# Altium footprint library 21xt_footprints.PcbLib: 29 footprints (part 1 of 2)
Each footprint in its own frame and in the unit in brackets; x right, y up, seen from the top. Pads: shape width x height; smd on the part's side, far side on the other; paste and mask are expansions set on the pad; w line width, h text height; cw(c..) or ccw(c..) is an arc to the next point about the centre after c.
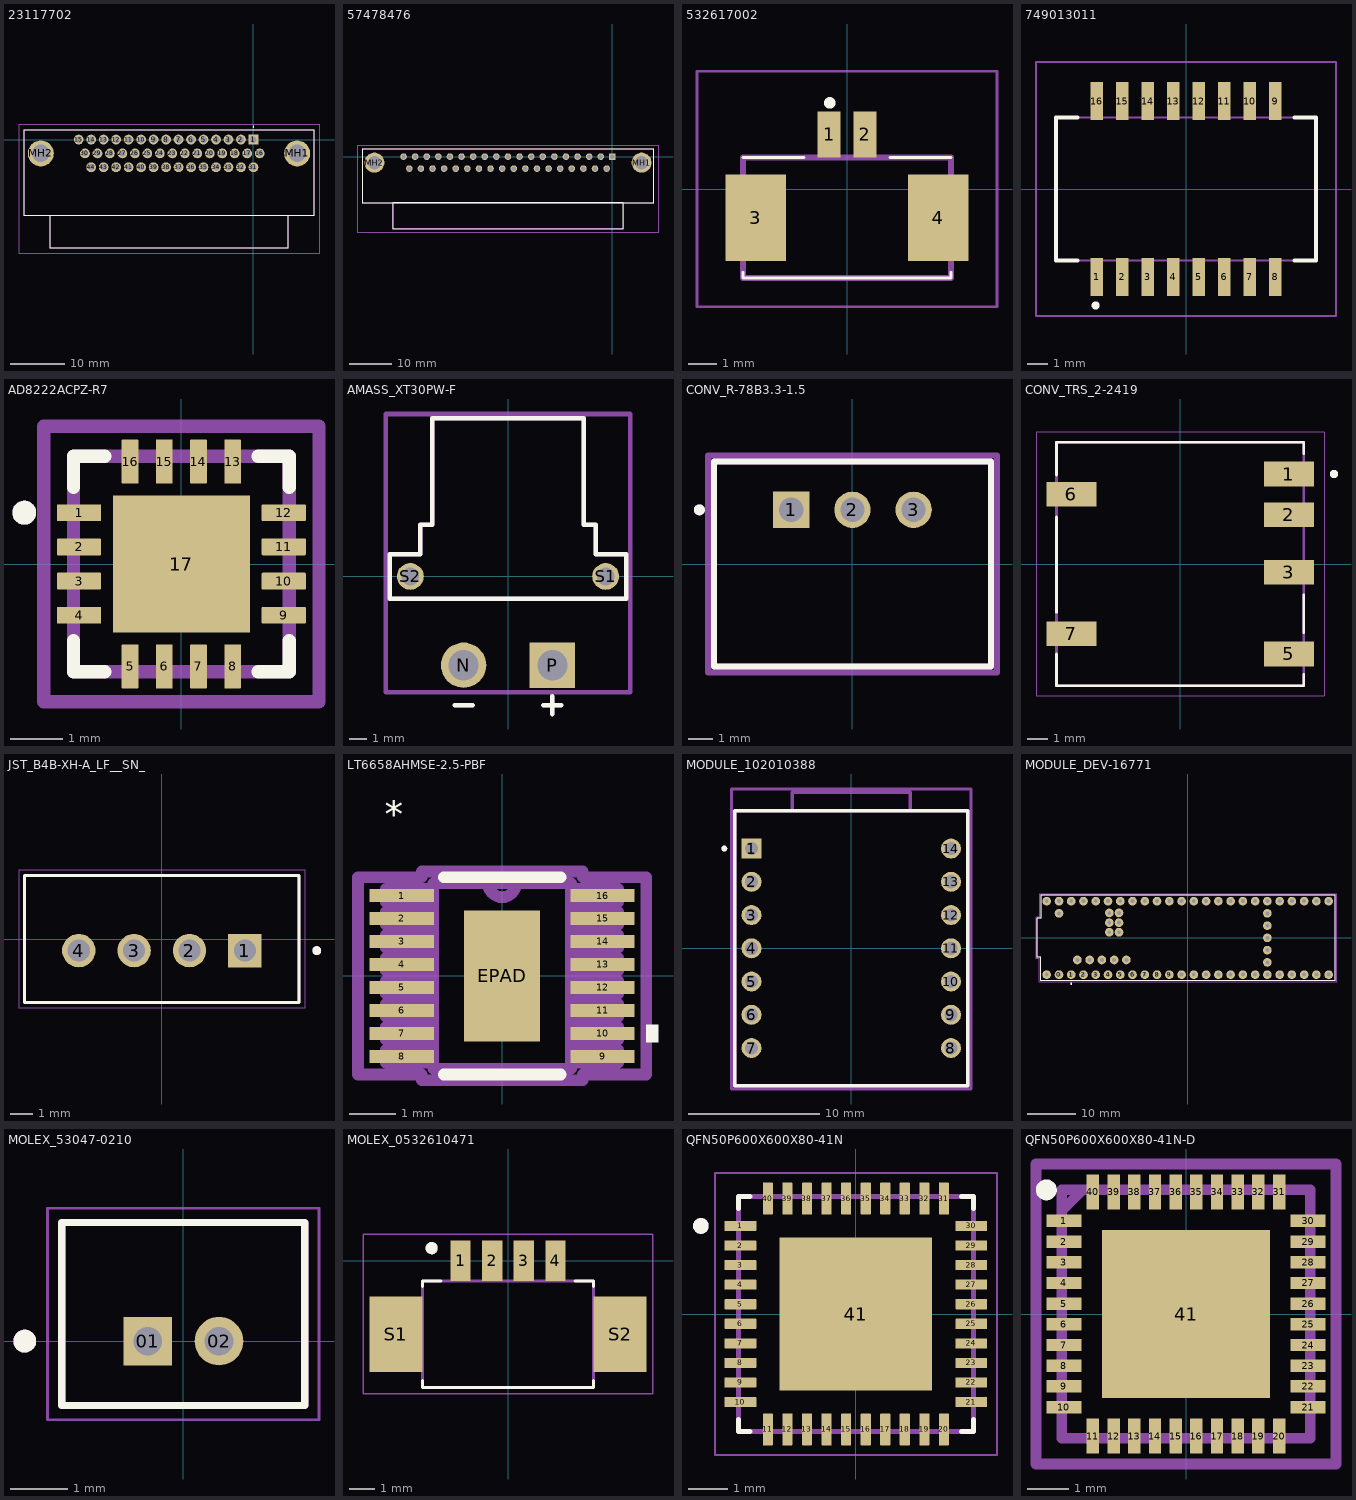
[diagram p0: the footprints below, top view; thin cyan lines are the x and y axes]

## 23117702 [mm]
pads (46):
  rect 1.785x1.785 hole 1.19: 1(0,0)
  round 1.785 hole 1.19: 2(-2.29,0) 3(-4.58,0) 4(-6.87,0) 5(-9.16,0) 6(-11.45,0) 7(-13.74,0) 8(-16.03,0) 9(-18.32,0) 10(-20.61,0) 11(-22.9,0) 12(-25.19,0) 13(-27.48,0) 14(-29.77,0) 15(-32.06,0) 16(1.145,-2.54) 17(-1.145,-2.54) 18(-3.435,-2.54) 19(-5.725,-2.54) 20(-8.015,-2.54) 21(-10.305,-2.54) 22(-12.595,-2.54) 23(-14.885,-2.54) 24(-17.175,-2.54) 25(-19.465,-2.54) 26(-21.755,-2.54) 27(-24.045,-2.54) 28(-26.335,-2.54) 29(-28.625,-2.54) 30(-30.915,-2.54) 31(0,-5.08) 32(-2.29,-5.08) 33(-4.58,-5.08) 34(-6.87,-5.08) 35(-9.16,-5.08) 36(-11.45,-5.08) 37(-13.74,-5.08) 38(-16.03,-5.08) 39(-18.32,-5.08) 40(-20.61,-5.08) 41(-22.9,-5.08) 42(-25.19,-5.08) 43(-27.48,-5.08) 44(-29.77,-5.08)
  round 4.77 hole 3.18: MH1(8.025,-2.54) MH2(-39.015,-2.54)
F.SilkS:
  lines w0.2: -37.25,-13.97 -37.25,-19.97 6.26,-19.97 6.26,-13.97 ; 0,2.3 0,2.4 ; 0,2.3 cw(c0,2.35) 0,2.4 ; 0,2.3 ccw(c0,2.35) 0,2.4 ; -42.015,-13.97 11.025,-13.97 11.025,1.83 -42.015,1.83 -42.015,-13.97
F.Fab:
  lines w0.1: -37.25,-13.97 -37.25,-19.97 6.26,-19.97 6.26,-13.97 ; -42.015,-13.97 11.025,-13.97 11.025,1.83 -42.015,1.83 -42.015,-13.97
  text "'.Designator'" at -17.321,-9.576 h1.27
F.CrtYd:
  lines w0.1: -43.015,-20.97 12.025,-20.97 12.025,2.83 -43.015,2.83 -43.015,-20.97

## 57478476 [mil]
pads (39):
  rect 61.5x61.5 hole 41: 1(0,0)
  round 61.5 hole 41: 2(-108.62,0) 3(-217.2,0) 4(-325.83,0) 5(-434.41,0) 6(-543.03,0) 7(-651.61,0) 8(-760.2,0) 9(-868.82,0) 10(-977.4,0) 11(-1086.02,0) 12(-1194.61,0) 13(-1303.23,0) 14(-1411.81,0) 15(-1520.39,0) 16(-1629.02,0) 17(-1737.6,0) 18(-1846.22,0) 19(-1954.8,0) 20(-53.5,-112.01) 21(-162.91,-112.01) 22(-271.5,-112.01) 23(-380.12,-112.01) 24(-488.7,-112.01) 25(-597.32,-112.01) 26(-705.91,-112.01) 27(-814.53,-112.01) 28(-923.11,-112.01) 29(-1031.69,-112.01) 30(-1140.32,-112.01) 31(-1248.9,-112.01) 32(-1357.52,-112.01) 33(-1466.1,-112.01) 34(-1574.72,-112.01) 35(-1683.31,-112.01) 36(-1791.93,-112.01) 37(-1900.51,-112.01)
  round 187.48 hole 125: MH1(272.99,-55.98) MH2(-2227.01,-55.98)
F.SilkS:
  lines w7.87: -2341.5,-430 387.48,-430 387.48,67.01 -2341.5,67.01 -2341.5,-430 ; -2056.5,-672.99 102.48,-672.99 102.48,-430 -2056.5,-430 -2056.5,-672.99
F.Fab:
  lines w3.94: -2341.5,-430 387.48,-430 387.48,67.01 -2341.5,67.01 -2341.5,-430 ; -2056.5,-672.99 102.48,-672.99 102.48,-430 -2056.5,-430 -2056.5,-672.99
  text "'.Designator'" at -1048.88,-322.9 h50
F.CrtYd:
  lines w3.94: -2380.87,-712.36 426.85,-712.36 426.85,106.38 -2380.87,106.38 -2380.87,-712.36

## 532617002 [mm]
pads (4):
  rect 0.8x1.6 smd: 1(-0.625,1.9) 2(0.625,1.9)
  rect 2.1x3 smd: 3(-3.175,-1) 4(3.175,-1)
F.SilkS:
  lines w0.1: -3.625,-2.9 -3.625,-3.1 3.625,-3.1 3.625,-2.9 ; -3.625,1.1 -1.5,1.1 ; 1.5,1.1 3.625,1.1
  lines w0.2: -0.7,3 ccw(c-0.6,3) -0.5,3 ccw(c-0.6,3) -0.7,3
F.Fab:
  lines w0.2: -3.625,-3.1 3.625,-3.1 3.625,1.1 -3.625,1.1 -3.625,-3.1
  text "'.Designator'" at -1.826,-0.506 h1.27
F.CrtYd:
  lines w0.1: -5.225,-4.1 5.225,-4.1 5.225,4.1 -5.225,4.1 -5.225,-4.1

## 749013011 [mm]
pads (16):
  rect 0.64x1.91 smd: 1(-4.445,-4.385) 2(-3.175,-4.385) 3(-1.905,-4.385) 4(-0.635,-4.385) 5(0.635,-4.385) 6(1.905,-4.385) 7(3.175,-4.385) 8(4.445,-4.385) 9(4.445,4.385) 10(3.175,4.385) 11(1.905,4.385) 12(0.635,4.385) 13(-0.635,4.385) 14(-1.905,4.385) 15(-3.175,4.385) 16(-4.445,4.385)
F.SilkS:
  lines w0.2: -5.4,-3.555 -6.475,-3.555 -6.475,3.555 -5.4,3.555 ; 5.4,-3.555 6.475,-3.555 6.475,3.555 5.4,3.555 ; -4.5,-5.9 cw(c-4.5,-5.8) -4.5,-5.7 cw(c-4.5,-5.8) -4.5,-5.9
F.Fab:
  lines w0.1: -6.475,-3.555 6.475,-3.555 6.475,3.555 -6.475,3.555 -6.475,-3.555
  text "'.Designator'" at -1.826,-0.506 h1.27
F.CrtYd:
  lines w0.1: -7.475,-6.34 7.475,-6.34 7.475,6.34 -7.475,6.34 -7.475,-6.34

## AD8222ACPZ-R7 [mm]
pads (17):
  rrect12% 0.84x0.32 smd: 1(-1.945,0.975) 2(-1.945,0.325) 3(-1.945,-0.325) 4(-1.945,-0.975) 9(1.945,-0.975) 10(1.945,-0.325) 11(1.945,0.325) 12(1.945,0.975)
  rrect12% 0.32x0.84 smd: 5(-0.975,-1.945) 6(-0.325,-1.945) 7(0.325,-1.945) 8(0.975,-1.945) 13(0.975,1.945) 14(0.325,1.945) 15(-0.325,1.945) 16(-0.975,1.945)
  rect 2.6x2.6 smd: 17(0,0)
F.SilkS:
  circle w0.254: c-2.985,0.975 r0.1
  lines w0.254: -2.05,-1.455 -2.05,-2.05 -1.455,-2.05 ; -2.05,1.455 -2.05,2.05 -1.455,2.05 ; 1.455,-2.05 2.05,-2.05 2.05,-1.455 ; 1.455,2.05 2.05,2.05 2.05,1.455
F.Paste:
  region: 0.82,-0.82 -0.82,-0.82 -0.82,0.82 0.82,0.82
F.Fab:
  circle w0.254: c-2.985,0.975 r0.1
  lines w0.254: -2.05,-2.05 -2.05,2.05 2.05,2.05 2.05,-2.05 -2.05,-2.05
F.CrtYd:
  lines w0.254: -2.615,-2.615 -2.615,2.615 2.615,2.615 2.615,-2.615 -2.615,-2.615

## AMASS_XT30PW-F [mm]
pads (4):
  round 2.55 hole 1.7: N(-2.5,-5)
  rect 2.55x2.55 hole 1.7: P(2.5,-5)
  round 1.508 hole 1: S1(5.5,0) S2(-5.5,0)
F.SilkS:
  lines w0.254: -3,-7.25 -2,-7.25 ; 2,-7.25 3,-7.25 ; 2.5,-7.75 2.5,-6.75 ; -6.65,-1.25 -6.65,1.25 -4.95,1.25 -4.95,2.9 -4.27,2.9 -4.27,8.9 4.27,8.9 4.27,2.9 4.95,2.9 4.95,1.25 6.65,1.25 6.65,-1.25 -6.65,-1.25
F.Fab:
  lines w0.254: -3,-7.25 -2,-7.25 ; 2,-7.25 3,-7.25 ; 2.5,-7.75 2.5,-6.75 ; -6.65,-1.25 -6.65,1.25 -4.95,1.25 -4.95,2.9 -4.27,2.9 -4.27,8.9 4.27,8.9 4.27,2.9 4.95,2.9 4.95,1.25 6.65,1.25 6.65,-1.25 -6.65,-1.25
F.CrtYd:
  lines w0.254: -6.9,-6.525 -6.9,9.15 6.9,9.15 6.9,-6.525 -6.9,-6.525

## CONV_R-78B3.3-1.5 [mm]
pads (3):
  rect 1.508x1.508 hole 1: 1(-2.54,2.25)
  round 1.508 hole 1: 2(0,2.25) 3(2.54,2.25)
F.SilkS:
  circle w0.254: c-6.35,2.25 r0.1
  lines w0.254: -5.75,-4.25 -5.75,4.25 5.75,4.25 5.75,-4.25 -5.75,-4.25
F.Fab:
  circle w0.254: c-6.35,2.25 r0.1
  lines w0.254: -5.75,-4.25 -5.75,4.25 5.75,4.25 5.75,-4.25 -5.75,-4.25
F.CrtYd:
  lines w0.254: -6,-4.5 -6,4.5 6,4.5 6,-4.5 -6,-4.5

## CONV_TRS_2-2419 [mm]
pads (6):
  rect 2.44x1.2 smd: 1(5.32,4.4) 2(5.32,2.4) 3(5.32,-0.4) 5(5.32,-4.4) 6(-5.32,3.4) 7(-5.32,-3.4)
F.SilkS:
  circle w0.2: c7.518,4.4 r0.1
  lines w0.127: -6.05,-4.4 -6.05,-5.95 6.05,-5.95 6.05,-5.4 ; -6.05,-2.35 -6.05,2.3 ; -6.05,4.35 -6.05,5.95 6.05,5.95 6.05,5.4 ; 6.05,-3.35 6.05,-1.5
F.Fab:
  circle w0.2: c7.518,4.4 r0.1
  lines w0.127: -6.05,-5.95 -6.05,5.95 6.05,5.95 6.05,-5.95 -6.05,-5.95
F.CrtYd:
  lines w0.05: -7.05,-6.45 -7.05,6.45 7.05,6.45 7.05,-6.45 -7.05,-6.45

## JST_B4B-XH-A_LF__SN_ [mm]
pads (4):
  rect 1.508x1.508 hole 1: 1(3.75,-0.525)
  round 1.508 hole 1: 2(1.25,-0.525) 3(-1.25,-0.525) 4(-3.75,-0.525)
F.SilkS:
  circle w0.2: c7,-0.525 r0.1
  lines w0.127: -6.2,-2.875 6.2,-2.875 6.2,2.875 -6.2,2.875 -6.2,-2.875
F.Fab:
  circle w0.2: c7,-0.525 r0.1
  lines w0.127: -6.2,-2.875 6.2,-2.875 6.2,2.875 -6.2,2.875 -6.2,-2.875
F.CrtYd:
  lines w0.05: -6.45,-3.125 6.45,-3.125 6.45,3.125 -6.45,3.125 -6.45,-3.125

## LT6658AHMSE-2.5-PBF [mil]
pads (17):
  rect 55x11 smd: 1(-86,68.9) 2(-86,49.21) 3(-86,29.53) 4(-86,9.84) 5(-86,-9.84) 6(-86,-29.53) 7(-86,-49.21) 8(-86,-68.9) 9(86,-68.9) 10(86,-49.21) 11(86,-29.53) 12(86,-9.84) 13(86,9.84) 14(86,29.53) 15(86,49.21) 16(86,68.9)
  rect 65x112 smd: EPAD(0,0)
F.SilkS:
  region: 133.5,-56.71 123.5,-56.71 123.5,-41.71 133.5,-41.71
  lines w10: -50.16,-84.5 50.16,-84.5 ; -50.16,84.5 50.16,84.5
  text "*" at -100.79,120.3 h39.37
  text "*" at -100.79,120.3 h39.37
F.Paste:
  region: 28.56,3.94 -28.56,3.94 -28.56,52.06 28.56,52.06
  region: 28.56,-52.06 -28.56,-52.06 -28.56,-3.94 28.56,-3.94
F.Fab:
  lines w10: -12,79.5 ccw(c0,79.5) 12,79.5 ; -99.5,-74.4 -99.5,-63.4 -59,-63.4 -59,-74.4 -99.5,-74.4 ; -99.5,-54.71 -99.5,-43.71 -59,-43.71 -59,-54.71 -99.5,-54.71 ; -99.5,-35.03 -99.5,-24.03 -59,-24.03 -59,-35.03 -99.5,-35.03 ; -99.5,-15.34 -99.5,-4.34 -59,-4.34 -59,-15.34 -99.5,-15.34 ; -99.5,4.34 -99.5,15.34 -59,15.34 -59,4.34 -99.5,4.34 ; -99.5,24.03 -99.5,35.03 -59,35.03 -59,24.03 -99.5,24.03 ; -99.5,43.71 -99.5,54.71 -59,54.71 -59,43.71 -99.5,43.71 ; -99.5,63.4 -99.5,74.4 -59,74.4 -59,63.4 -99.5,63.4 ; -59,-79.5 -59,79.5 59,79.5 59,-79.5 -59,-79.5 ; 59,-74.4 59,-63.4 99.5,-63.4 99.5,-74.4 59,-74.4 ; 59,-54.71 59,-43.71 99.5,-43.71 99.5,-54.71 59,-54.71 ; 59,-35.03 59,-24.03 99.5,-24.03 99.5,-35.03 59,-35.03 ; 59,-15.34 59,-4.34 99.5,-4.34 99.5,-15.34 59,-15.34 ; 59,4.34 59,15.34 99.5,15.34 99.5,4.34 59,4.34 ; 59,24.03 59,35.03 99.5,35.03 99.5,24.03 59,24.03 ; 59,43.71 59,54.71 99.5,54.71 99.5,43.71 59,43.71 ; 59,63.4 59,74.4 99.5,74.4 99.5,63.4 59,63.4
  text "*" at -48.79,71.9 h39.37
  text "*" at -48.79,71.9 h39.37
  text "'.Designator'" at -56.63,-15.69 h39.37
F.CrtYd:
  lines w10: -123.5,-84.4 -123.5,84.4 -69,84.4 -69,89.5 69,89.5 69,84.4 123.5,84.4 123.5,-84.4 69,-84.4 69,-89.5 -69,-89.5 -69,-84.4 -123.5,-84.4

## MODULE_102010388 [mm]
pads (14):
  rect 1.53x1.53 hole 1.02: 1(-7.62,7.62)
  round 1.53 hole 1.02: 2(-7.62,5.08) 3(-7.62,2.54) 4(-7.62,0) 5(-7.62,-2.54) 6(-7.62,-5.08) 7(-7.62,-7.62) 8(7.62,-7.62) 9(7.62,-5.08) 10(7.62,-2.54) 11(7.62,0) 12(7.62,2.54) 13(7.62,5.08) 14(7.62,7.62)
F.SilkS:
  circle w0.254: c-9.7,7.62 r0.1
  lines w0.254: -8.9,-10.5 -8.9,10.5 8.9,10.5 8.9,-10.5 -8.9,-10.5
F.Fab:
  circle w0.254: c-9.7,7.62 r0.1
  lines w0.254: -4.5,10.5 -8.9,10.5 -8.9,-10.5 8.9,-10.5 8.9,10.5 4.5,10.5 ; -4.5,10.5 -4.5,11.92 4.5,11.92 4.5,10.5 ; -4.5,10.5 4.5,10.5
F.CrtYd:
  lines w0.254: -9.15,-10.75 -9.15,12.17 9.15,12.17 9.15,-10.75 -9.15,-10.75

## MODULE_DEV-16771 [mm]
pads (65):
  round 1.8 hole 0.8: 0(-26.67,-7.62) 1(-24.13,-7.62) 2(-21.59,-7.62) 3(-19.05,-7.62) 3.3V_1(6.35,-7.62) 3.3V_2(-24.13,7.62) 3.3V_3(16.51,-2.54) 4(-16.51,-7.62) 5(-13.97,-7.62) 5V(-22.86,-4.57) 6(-11.43,-7.62) 7(-8.89,-7.62) 8(-6.35,-7.62) 9(-3.81,-7.62) 10(-1.27,-7.62) 11(1.27,-7.62) 12(3.81,-7.62) 13(3.81,7.62) 14(1.27,7.62) 15(-1.27,7.62) 16(-3.81,7.62) 17(-6.35,7.62) 18(-8.89,7.62) 19(-11.43,7.62) 20(-13.97,7.62) 21(-16.51,7.62) 22(-19.05,7.62) 23(-21.59,7.62) 24(8.89,-7.62) 25(11.43,-7.62) 26(13.97,-7.62) 27(16.51,-7.62) 28(19.05,-7.62) 29(21.59,-7.62) 30(24.13,-7.62) 31(26.67,-7.62) 32(29.21,-7.62) 33(29.21,7.62) 34(26.67,7.62) 35(24.13,7.62) 36(21.59,7.62) 37(19.05,7.62) 38(16.51,7.62) 39(13.97,7.62) 40(11.43,7.62) 41(8.89,7.62) D+(-17.78,-4.57) D-(-20.32,-4.57) GND1(-29.21,-7.62) GND2(6.35,7.62) GND3(-26.67,7.62) GND4(16.51,0) GND5(-14.24,3.17) LED(-16.24,3.17) ON/OFF(16.51,5.08) PROGRAM(16.51,2.54) R+(-16.24,5.17) R-(-14.24,5.17) T+(-14.24,1.17) T-(-16.24,1.17) USB_GND1(-15.24,-4.57) USB_GND2(-12.7,-4.57) VBAT(16.51,-5.08) VIN(-29.21,7.62) VUSB(-26.67,5.08)
F.SilkS:
  circle w0.254: c-24.13,-9.5 r0.1
  lines w0.254: -31.18,-4.03 -31.18,4.03 -30.48,4.03 -30.48,8.89 30.48,8.89 30.48,-8.89 -30.48,-8.89 -30.48,-4.03 -31.18,-4.03
F.Fab:
  circle w0.254: c-24.13,-9.5 r0.1
  lines w0.254: -31.18,-4.03 -31.18,4.03 -30.48,4.03 -30.48,8.89 30.48,8.89 30.48,-8.89 -30.48,-8.89 -30.48,-4.03 -31.18,-4.03
  text "Teensy 4.1" at -1.472,-0.041 h1
F.CrtYd:
  lines w0.254: -31.43,-4.28 -31.43,4.28 -30.73,4.28 -30.73,9.14 30.73,9.14 30.73,-9.14 -30.73,-9.14 -30.73,-4.28 -31.43,-4.28

## MOLEX_53047-0210 [mm]
pads (2):
  rect 0.85x0.85 hole 0.5: 01(-0.625,0)
  round 0.85 hole 0.5: 02(0.625,0)
F.SilkS:
  circle w0.2: c-2.775,0 r0.1
  lines w0.127: -2.125,-1.125 -2.125,2.075 2.125,2.075 2.125,-1.125 -2.125,-1.125
F.Fab:
  circle w0.2: c-2.775,0 r0.1
  lines w0.127: -2.125,-1.125 -2.125,2.075 2.125,2.075 2.125,-1.125 -2.125,-1.125
F.CrtYd:
  lines w0.05: -2.375,-1.375 -2.375,2.325 2.375,2.325 2.375,-1.375 -2.375,-1.375

## MOLEX_0532610471 [mm]
pads (6):
  rect 0.8x1.6 smd: 1(-1.875,0) 2(-0.625,0) 3(0.625,0) 4(1.875,0)
  rect 2.1x3 smd: S1(-4.425,-2.9) S2(4.425,-2.9)
F.SilkS:
  circle w0.24: c-3.015,0.5 r0.12
  lines w0.127: -3.375,-4.725 -3.375,-5 3.375,-5 3.375,-4.725 ; -3.375,-1 -3.375,-0.8 -2.65,-0.8 ; 2.65,-0.8 3.375,-0.8 3.375,-1
F.Fab:
  circle w0.24: c-3.015,0.5 r0.12
  lines w0.127: -3.375,-5 -3.375,-0.8 3.375,-0.8 3.375,-5 -3.375,-5
F.CrtYd:
  lines w0.05: -5.725,-5.25 5.725,-5.25 5.725,1.05 -5.725,1.05 -5.725,-5.25

## QFN50P600X600X80-41N [mm]
pads (41):
  rrect12% 0.81x0.26 smd: 1(-2.95,2.25) 2(-2.95,1.75) 3(-2.95,1.25) 4(-2.95,0.75) 5(-2.95,0.25) 6(-2.95,-0.25) 7(-2.95,-0.75) 8(-2.95,-1.25) 9(-2.95,-1.75) 10(-2.95,-2.25) 21(2.95,-2.25) 22(2.95,-1.75) 23(2.95,-1.25) 24(2.95,-0.75) 25(2.95,-0.25) 26(2.95,0.25) 27(2.95,0.75) 28(2.95,1.25) 29(2.95,1.75) 30(2.95,2.25)
  rrect12% 0.26x0.81 smd: 11(-2.25,-2.95) 12(-1.75,-2.95) 13(-1.25,-2.95) 14(-0.75,-2.95) 15(-0.25,-2.95) 16(0.25,-2.95) 17(0.75,-2.95) 18(1.25,-2.95) 19(1.75,-2.95) 20(2.25,-2.95) 31(2.25,2.95) 32(1.75,2.95) 33(1.25,2.95) 34(0.75,2.95) 35(0.25,2.95) 36(-0.25,2.95) 37(-0.75,2.95) 38(-1.25,2.95) 39(-1.75,2.95) 40(-2.25,2.95)
  rect 3.9x3.9 smd: 41(0,0)
F.SilkS:
  circle w0.2: c-3.96,2.25 r0.1
  lines w0.127: -3,-2.7 -3,-3 -2.7,-3 ; -3,2.7 -3,3 -2.7,3 ; 2.7,-3 3,-3 3,-2.7 ; 2.7,3 3,3 3,2.7
F.Paste:
  region: 1.23,-1.23 -1.23,-1.23 -1.23,1.23 1.23,1.23
F.Fab:
  circle w0.2: c-3.96,2.25 r0.1
  lines w0.127: -3,-3 3,-3 3,3 -3,3 -3,-3
F.CrtYd:
  lines w0.05: -3.605,-3.605 3.605,-3.605 3.605,3.605 -3.605,3.605 -3.605,-3.605

## QFN50P600X600X80-41N-D [mm]
pads (41):
  rect 0.85x0.3 smd: 1(-2.95,2.25) 2(-2.95,1.75) 3(-2.95,1.25) 4(-2.95,0.75) 5(-2.95,0.25) 6(-2.95,-0.25) 7(-2.95,-0.75) 8(-2.95,-1.25) 9(-2.95,-1.75) 10(-2.95,-2.25) 21(2.95,-2.25) 22(2.95,-1.75) 23(2.95,-1.25) 24(2.95,-0.75) 25(2.95,-0.25) 26(2.95,0.25) 27(2.95,0.75) 28(2.95,1.25) 29(2.95,1.75) 30(2.95,2.25)
  rect 0.3x0.85 smd: 11(-2.25,-2.95) 12(-1.75,-2.95) 13(-1.25,-2.95) 14(-0.75,-2.95) 15(-0.25,-2.95) 16(0.25,-2.95) 17(0.75,-2.95) 18(1.25,-2.95) 19(1.75,-2.95) 20(2.25,-2.95) 31(2.25,2.95) 32(1.75,2.95) 33(1.25,2.95) 34(0.75,2.95) 35(0.25,2.95) 36(-0.25,2.95) 37(-0.75,2.95) 38(-1.25,2.95) 39(-1.75,2.95) 40(-2.25,2.95)
  rect 4.05x4.05 smd: 41(0,0)
F.SilkS:
  circle w0.254: c-3.375,3 r0.125
F.Fab:
  lines w0.254: -3,2.5 -2.5,3 ; -3,-3 -3,3 3,3 3,-3 -3,-3
  text "'.Designator'" at -1.826,-0.506 h1.27
F.CrtYd:
  lines w0.254: -3.625,-3.625 -3.625,3.625 3.625,3.625 3.625,-3.625 -3.625,-3.625